# Altium schematic symbol library SCH - CONNECTORS - 40 PIN.SCHLIB: 2 symbols
Pins are listed as number, name and electrical type; pins without a type are passive.

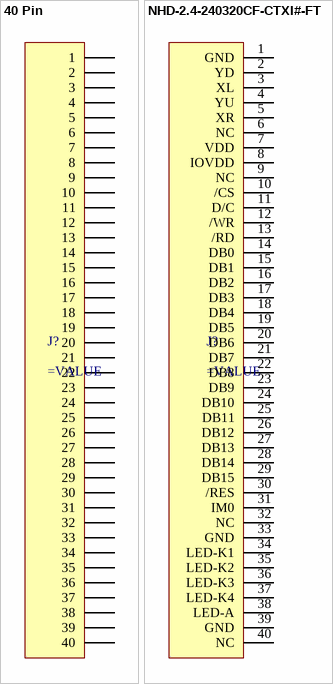
[diagram p0: symbols 40 Pin to NHD-2.4-240320CF-CTXI#-FT]

## 40 Pin
designator J?
pins: 1, 2, 3, 4, 5, 6, 7, 8, 9, 10, 11, 12, 13, 14, 15, 16, 17, 18, 19, 20, 21, 22, 23, 24, 25, 26, 27, 28, 29, 30, 31, 32, 33, 34, 35, 36, 37, 38, 39, 40

## NHD-2.4-240320CF-CTXI#-FT
designator J?
pins: 1 GND, 2 YD, 3 XL, 4 YU, 5 XR, 6 NC, 7 VDD, 8 IOVDD, 9 NC, 10 /CS, 11 D/C, 12 /WR, 13 /RD, 14 DB0, 15 DB1, 16 DB2, 17 DB3, 18 DB4, 19 DB5, 20 DB6, 21 DB7, 22 DB8, 23 DB9, 24 DB10, 25 DB11, 26 DB12, 27 DB13, 28 DB14, 29 DB15, 30 /RES, 31 IM0, 32 NC, 33 GND, 34 LED-K1, 35 LED-K2, 36 LED-K3, 37 LED-K4, 38 LED-A, 39 GND, 40 NC